# Altium footprint library SMD_MISC.PCBLIB: 1 footprints
Each footprint in its own frame and in the unit in brackets; x right, y up, seen from the top. Pads: shape width x height; smd on the part's side, far side on the other; paste and mask are expansions set on the pad; w line width, h text height; cw(c..) or ccw(c..) is an arc to the next point about the centre after c.
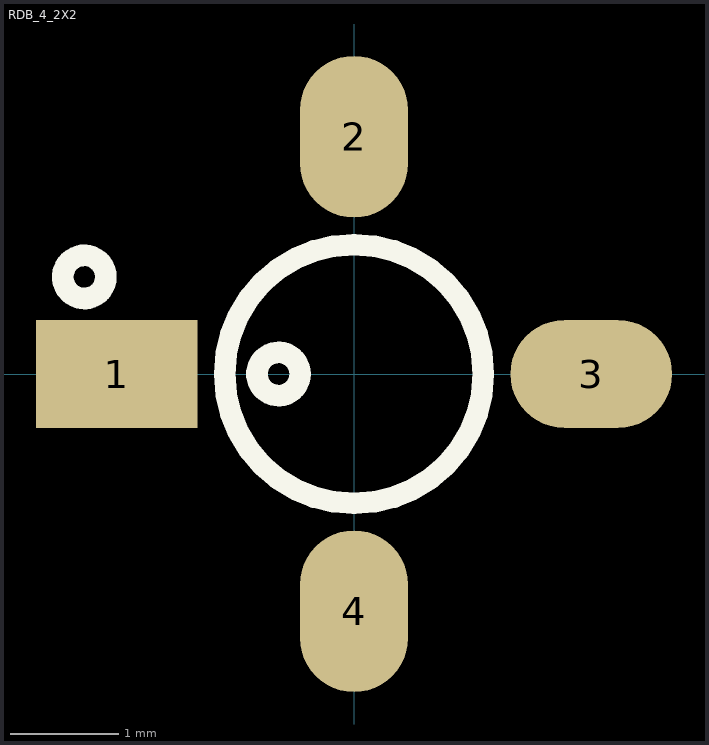
[diagram p0: the footprint, top view; thin cyan lines are the x and y axes]

## RDB_4_2X2 [mm] "ERA, AF320/WW107/AF190/PAT (MINI-CIRCUITS), MSA-0986"
pads (4):
  rect 1.5x1 smd: 1(-2.2,0)
  oval 1x1.5 smd: 2(0,2.2) 4(0,-2.2)
  oval 1.5x1 smd: 3(2.2,0)
TopOverlay:
  circle w0.2: c-0.7,0 r0.2
  circle w0.2: c-2.5,0.9 r0.2
  circle w0.2: c0,0 r1.2
3D body "User Library-WW107.step": height 1.52, standoff 0, extent -2.54,-2.34 2.34,2.34